# EAGLE library part 1905 (library Mentor-FEL)
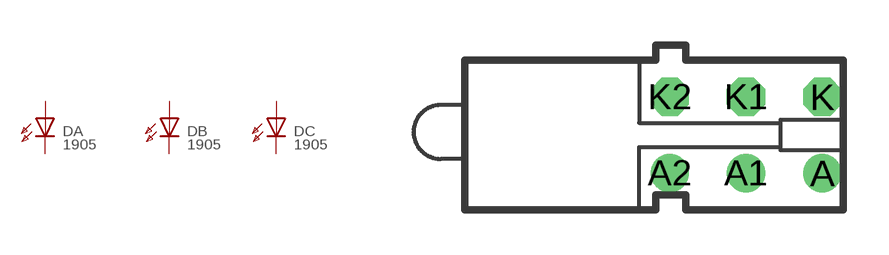
[diagram p0: symbol with the pads of 1905; footprint 1905]

Designator prefix D; gates A=LED B=LED C=LED

## 1905  [1905]
A  A:A  pas
A1  B:A  pas
A2  C:A  pas
K  A:K  pas
K1  B:K  pas
K2  C:K  pas

## Footprint 1905 (pad centres in mm)
drill 0.61 pad 1.27: A 5.08,-1.27; A1 2.54,-1.27; A2 0,-1.27
drill 0.61 pad 1.27 octagon: K 5.08,1.27; K1 2.54,1.27; K2 0,1.27